# EAGLE library part MDW10-DUAL-OUTPUT (library MinMax DC-DC Converters)
MDW10-SINGLE-OUTPUT This is for the single output variants of this series. MINMAX MDW10 Series. DC-DC Converter 10W, Regulated Output, DIP Package.
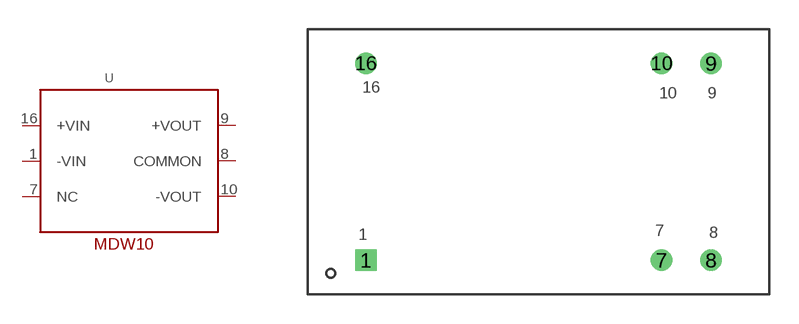
[diagram p1: symbol with the pads of DIP-16; footprint DIP-16]

Designator prefix -

## MDW10-DUAL-OUTPUT  [DIP-16]
1  -VIN
7  NC
8  COMMON
9  +VOUT
10  -VOUT
16  +VIN

## Footprint DIP-16 (pad centres in mm)
MINMAX MDW10 Series. DIP-16 Package
drill 0.6 square: 1 3,1.77
drill 0.6: 7 18.24,1.77; 8 20.78,1.77; 9 20.78,11.93; 10 18.24,11.93; 16 3,11.93